# Altium schematic symbol library Sch_Tactile_Switches.SchLib: 1 symbol
Pins are listed as number, name and electrical type; pins without a type are passive.

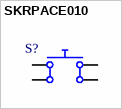
[diagram p0: symbol SKRPACE010]

## SKRPACE010
designator S?  (value not drawn)
3.2mm 2.5mm Oval Button 50mA Surface Mount,Vertical 4.2mm SPST 16V SMD Tactile Switches ROHS; Manufacturer: Alps Electric; Actuator Type: STEM; Circuit Configuration: 1X1; Contact DC Max Rating R Load: .05A@16VDC; Number of Switches: 1; Operating Force-Max: 2.55N; Switch Action: MOMENTARY-TACTILE; Switch Type: Keypad; Body Height: 1.6mm; Alter: C778165,C2896624; Supplier: Digikey; Supplier Part Number: 4809-SKRPACE010DKR-ND; Manufacturer Part Number: SKRPACE010; RoHS: Yes; Category: Tactile Switches; Stock: 7855; Pricing: 1=0.21, 10=0.179, 25=0.1684, 100=0.1511, 250=0.14016, 500=0.13228, 1000=0.12484 (USD); Mounting Technology: Surface Mount; Terminal Finish: Silver; Min Operating Temperature: -30°C; Max Operating Temperature: 85°C; JESD-609 Code: e4; Contact Current(DC)-Max: 50mA; Contact Voltage(DC)-Max: 16V; Packaging: Tape and Reel; Switch Function: SPST; Termination: Solder; Body Breadth: 3.2mm; Body Length or Diameter: 4.2mm; Reach SVHC Compliant: Yes; RoHS Compliant: Yes; ComponentLink1URL: https://datasheet.ciiva.com:443/pdfs/VipMasterIC/IC/ALPS/ALPS-S-A0002902398/ALPS-S-A0002902265-1.pdf?src-supplier=IHS+Markit; ComponentLink1Description: https://datasheet.ciiva.com:443/pdfs/VipMasterIC/IC/ALPS/ALPS-S-A0002902398/ALPS-S-A0002902265-1.pdf?src-supplier=IHS+Markit; ComponentLink2URL: https://datasheet.ciiva.com/16156/skrp-16156208.pdf?src-supplier=Onlinecomponents.com; ComponentLink2Description: https://datasheet.ciiva.com/16156/skrp-16156208.pdf?src-supplier=Onlinecomponents.com; ComponentLink3URL: https://datasheet.ciiva.com/18145/getdatasheetpartid-652528-18145947.pdf?src-supplier=Verical; ComponentLink3Description: https://datasheet.ciiva.com/18145/getdatasheetpartid-652528-18145947.pdf?src-supplier=Verical; LCSC Part #: C139797
footprint SW_SKRPACE010_AAL
pins: 1, 2, 3, 4